# Altium schematic symbol library SCH - STANDOFF - SINGLE SMT.SCHLIB: 1 symbol
Pins are listed as number, name and electrical type; pins without a type are passive.

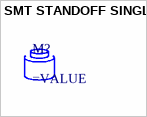
[diagram p0: symbol SMT STANDOFF SINGLE]

## SMT STANDOFF SINGLE
designator M?